# EAGLE library part PANDA (library comma.ai)
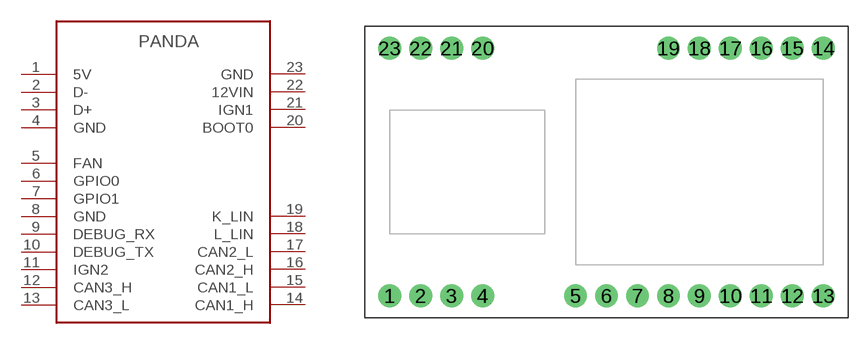
[diagram p26: symbol with the pads of PANDA-FOOT; footprint PANDA-FOOT]

Designator prefix -

## PANDA  [PANDA-FOOT]
1  5V
2  D-
3  D+
4  GND
5  FAN
6  GPIO0
7  GPIO1
8  GND
9  DEBUG_RX
10  DEBUG_TX
11  IGN2
12  CAN3_H
13  CAN3_L
14  CAN1_H
15  CAN1_L
16  CAN2_H
17  CAN2_L
18  L_LIN
19  K_LIN
20  BOOT0
21  IGN1
22  12VIN
23  GND

## Footprint PANDA-FOOT (pad centres in mm)
drill 1.1 pad 1.88: 1 -17.78,-10.16; 2 -15.24,-10.16; 3 -12.7,-10.16; 4 -10.16,-10.16; 5 -2.54,-10.16; 6 0,-10.16; 7 2.54,-10.16; 8 5.08,-10.16; 9 7.62,-10.16; 10 10.16,-10.16; 11 12.7,-10.16; 12 15.24,-10.16; 13 17.78,-10.16; 14 17.78,10.16; 15 15.24,10.16; 16 12.7,10.16; 17 10.16,10.16; 18 7.62,10.16; 19 5.08,10.16; 20 -10.16,10.16; 21 -12.7,10.16; 22 -15.24,10.16; 23 -17.78,10.16